# Altium schematic symbol library electronic.SchLib: 4 symbols
Pins are listed as number, name and electrical type; pins without a type are passive.

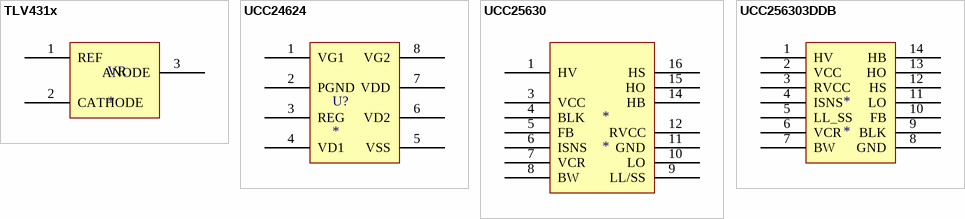
[diagram p0: symbols TLV431x to UCC256303DDB]

## TLV431x
designator VR
footprint TLV431x (SOT23, 3-Leads, Body 2.92x2.37mm, Pitch 0.95mm, IPC Medium Density)
pins: 1 REF, 2 CATHODE, 3 ANODE

## UCC24624
designator U?
footprint UCC24624 (SOIC, 8-Leads, Body 4.90x3.90mm, Pitch 1.27mm, IPC Medium Density)
pins: 1 VG1, 2 PGND, 3 REG, 4 VD1, 5 VSS, 6 VD2, 7 VDD, 8 VG2

## UCC25630
designator *
pins: 1 HV, 3 VCC, 4 BLK, 5 FB, 6 ISNS, 7 VCR, 8 BW, 9 LL/SS, 10 LO, 11 GND, 12 RVCC, 14 HB, 15 HO, 16 HS

## UCC256303DDB
designator *
footprint UCC256303 (SOIC, 16-Leads, Body 9.90x3.90mm, Pitch 1.27mm, IPC Medium Density)
pins: 1 HV, 2 VCC, 3 RVCC, 4 ISNS, 5 LL_SS, 6 VCR, 7 BW, 8 GND, 9 BLK, 10 FB, 11 LO, 12 HS, 13 HO, 14 HB